# Altium schematic symbol library мс импортные.SchLib: 62 symbols
Pins are listed as number, name and electrical type; pins without a type are passive.

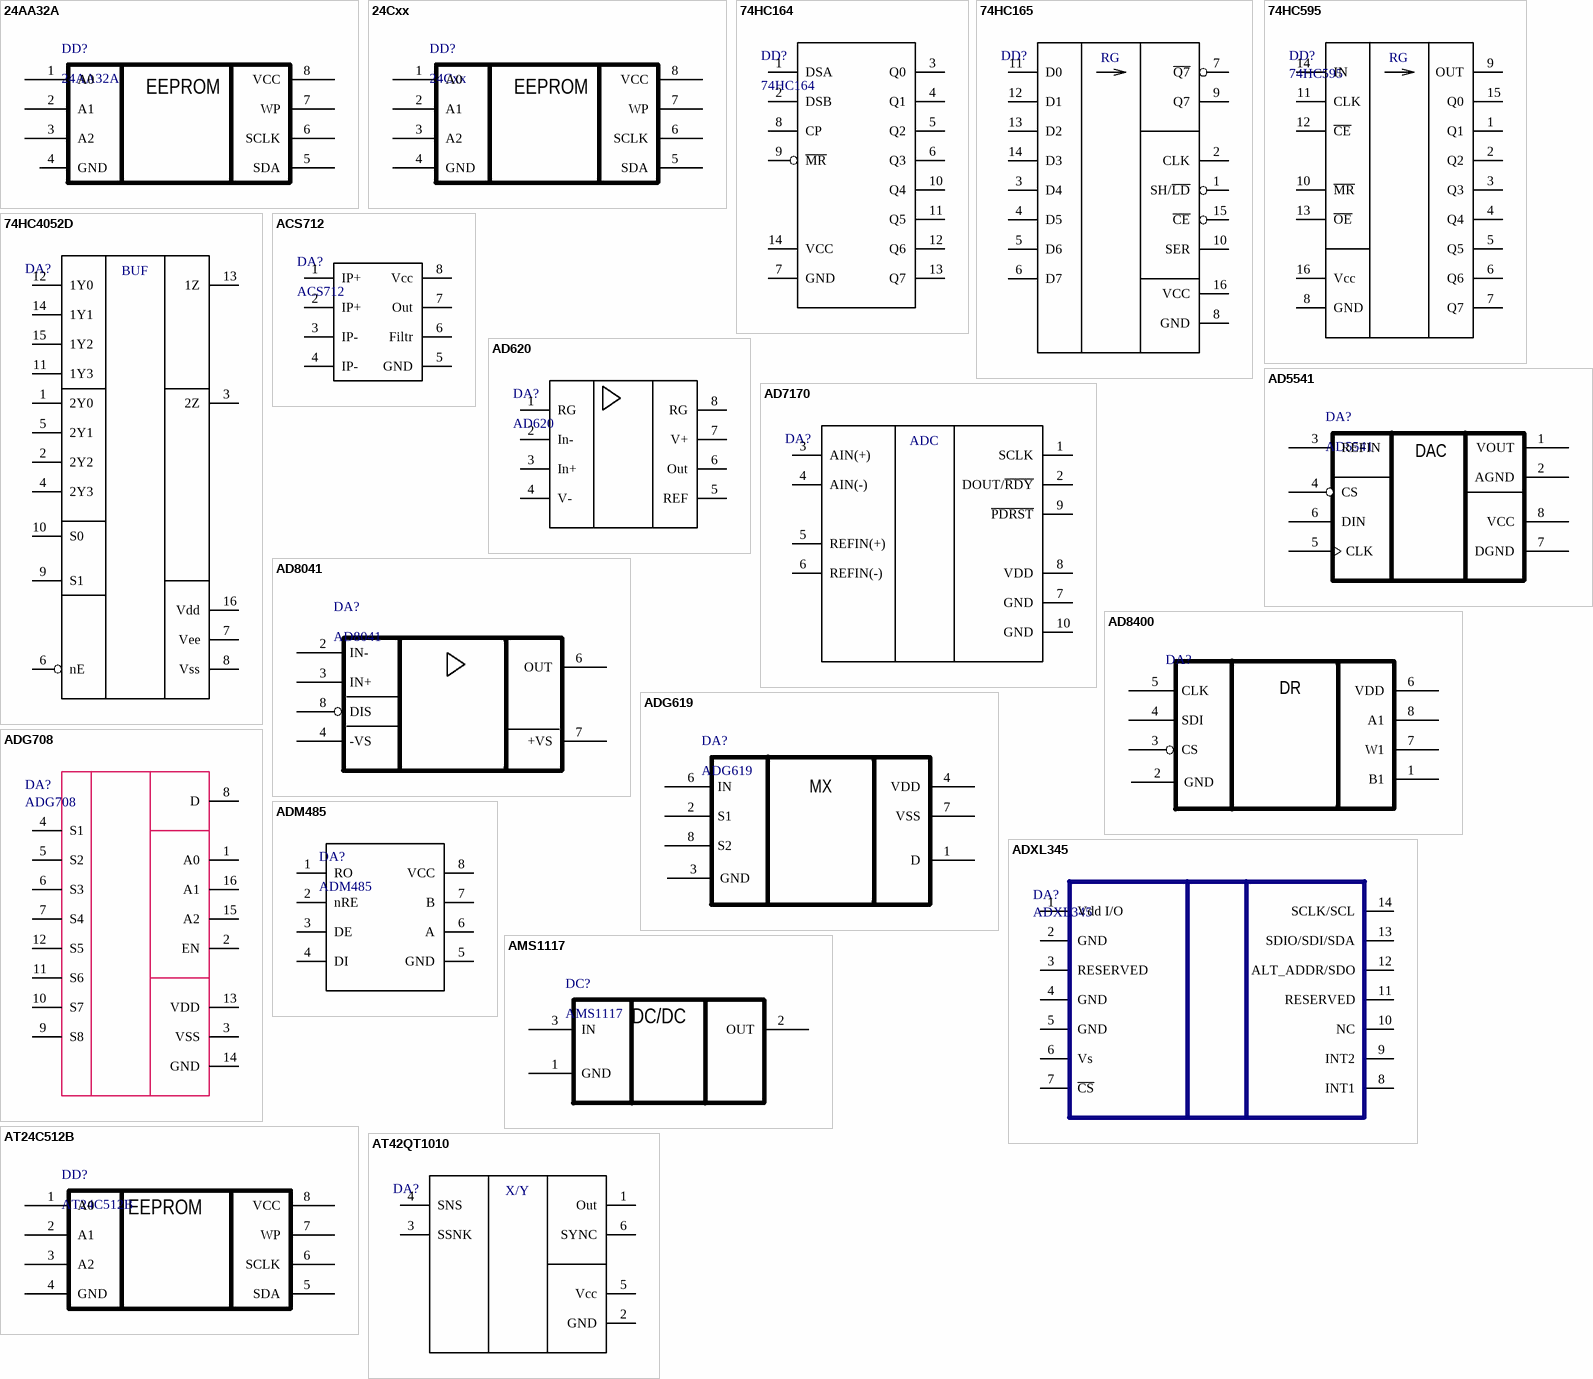
[diagram p0: symbols 24AA32A to AT42QT1010]

## 24AA32A
designator DD?
footprint TSSOP8 (TSOP, 8-Leads, Body 3,00x4,40mm, Pitch 0,65mm, IPC Medium Density)
pins: 1 A0, 2 A1, 3 A2, 4 GND, 5 SDA, 6 SCLK, 7 WP, 8 VCC
text: EEPROM

## 24Cxx
designator DD?
footprint SO-8
pins: 1 A0, 2 A1, 3 A2, 4 GND, 5 SDA, 6 SCLK, 7 WP, 8 VCC
text: EEPROM

## 74HC164
designator DD?
footprint SOP14
pins: 1 DSA, 2 DSB, 3 Q0, 4 Q1, 5 Q2, 6 Q3, 7 GND, 8 CP, 9 ~{MR}, 10 Q4, 11 Q5, 12 Q6, 13 Q7, 14 VCC

## 74HC165
designator DD?  (value not drawn)
Manufacturer: Texas Instruments; ManufacturerPartNumber: SN74HC165DR; Package: SO-16
footprint SO-16 (SOIC, 16-Leads, Body 9,90x3,90mm, Pitch 1,27mm, IPC Medium Density)
pins: 1 SH/~{LD}, 2 CLK, 3 D4, 4 D5, 5 D6, 6 D7, 7 ~{Q7}, 8 GND, 9 Q7, 10 SER, 11 D0, 12 D1, 13 D2, 14 D3, 15 ~{CE}, 16 VCC
text: RG

## 74HC595
designator DD?
Manufacturer: Texas Instruments; ManufacturerPartNumber: SN74HC595D; Package: SO-16
footprint SO-16 (SOIC, 16-Leads, Body 9,90x3,90mm, Pitch 1,27mm, IPC Medium Density)
pins: 1 Q1, 2 Q2, 3 Q3, 4 Q4, 5 Q5, 6 Q6, 7 Q7, 8 GND, 9 OUT, 10 ~{MR}, 11 CLK, 12 ~{CE}, 13 ~{OE}, 14 IN, 15 Q0, 16 Vcc
text: RG

## 74HC4052D
designator DA?, comment 74HC4052D,653NEXPERIASO-16  (value not drawn)
74HC4052D; Rem: *; Package: SO-16; Value: *; Tolerance: *; Power/Voltage: *; TKE: *; ManufacturerPartNumber: 74HC4052D,653; Manufacturer: NEXPERIA; Quantity: *; Примечание: *; Price: *
footprint SO-16 (SOIC, 16-Leads, Body 9,90x3,90mm, Pitch 1,27mm, IPC Medium Density)
pins: 1 2Y0, 2 2Y2, 3 2Z, 4 2Y3, 5 2Y1, 6 nE, 7 Vee, 8 Vss, 9 S1, 10 S0, 11 1Y3, 12 1Y0, 13 1Z, 14 1Y1, 15 1Y2, 16 Vdd
text: BUF

## ACS712
designator DA?
footprint SO-8
pins: 1 IP+, 2 IP+, 3 IP-, 4 IP-, 5 GND, 6 Filtr, 7 Out, 8 Vcc

## AD620
designator DA?
footprint DIP-8
pins: 1 RG, 2 In-, 3 In+, 4 V-, 5 REF, 6 Out, 7 V+, 8 RG

## AD5541
designator DA?
footprint SOIC-8
pins: 1 VOUT, 2 AGND, 3 REFIN, 4 CS, 5 CLK, 6 DIN, 7 DGND, 8 VCC
text: DAC

## AD7170
designator DA?, comment AD7170BCPZ-500RL7Analog DevicesLFCSP_WD  (value not drawn)
AD7170; Rem: *; Package: LFCSP_WD; Value: *; Tolerance: *; Power/Voltage: *; TKE: *; ManufacturerPartNumber: AD7170BCPZ-500RL7; Manufacturer: Analog Devices; Quantity: *; Примечание: *; Price: *
footprint LFCSP_WD_10
pins: 1 SCLK, 2 DOUT/~{RDY}, 3 AIN(+), 4 AIN(-), 5 REFIN(+), 6 REFIN(-), 7 GND, 8 VDD, 9 ~{PDRST}, 10 GND, 11 hidden to GND
text: ADC

## AD8041
designator DA?
footprint SOIC-8
pins: 2 IN-, 3 IN+, 4 -VS, 6 OUT, 7 +VS, 8 DIS

## AD8400
designator DA?  (value not drawn)
footprint SOIC-8
pins: 1 B1, 2 GND, 3 CS, 4 SDI, 5 CLK, 6 VDD, 7 W1, 8 A1
text: DR

## ADG619
designator DA?
footprint SOT23-8
pins: 1 D, 2 S1, 3 GND, 4 VDD, 6 IN, 7 VSS, 8 S2
text: MX

## ADG708
designator DA?
footprint TSSOP16 (SOP, 16-Leads, Body 5,00x4,40mm, Pitch 0,65mm, IPC Medium Density)
pins: 1 A0, 2 EN, 3 VSS, 4 S1, 5 S2, 6 S3, 7 S4, 8 D, 9 S8, 10 S7, 11 S6, 12 S5, 13 VDD, 14 GND, 15 A2, 16 A1

## ADM485
designator DA?
footprint SO-8
pins: 1 RO, 2 nRE, 3 DE, 4 DI, 5 GND, 6 A, 7 B, 8 VCC

## ADXL345
designator DA?
footprint ADXL345
pins: 1 Vdd I/O, 2 GND, 3 RESERVED, 4 GND, 5 GND, 6 Vs, 7 ~{CS}, 8 INT1, 9 INT2, 10 NC, 11 RESERVED, 12 ALT_ADDR/SDO, 13 SDIO/SDI/SDA, 14 SCLK/SCL

## AMS1117
designator DC?
footprint TO252
pins: 1 GND, 2 OUT, 3 IN
text: DC/DC

## AT24C512B
designator DD?
footprint SOIC-8
pins: 1 A0, 2 A1, 3 A2, 4 GND, 5 SDA, 6 SCLK, 7 WP, 8 VCC
text: EEPROM

## AT42QT1010
designator DA?, comment ***  (value not drawn)
Rem: *; Package: *; Value: *; Tolerance: *; Power/Voltage: *; TKE: *; ManufacturerPartNumber: *; Manufacturer: *; Quantity: *; Примечание: *
footprint SOT23-6 (SOT23, 6-Leads, Body 2,90x2,45mm, Pitch 0,95mm, IPC Medium Density)
pins: 1 Out, 2 GND, 3 SSNK, 4 SNS, 5 Vcc, 6 SYNC
text: X/Y

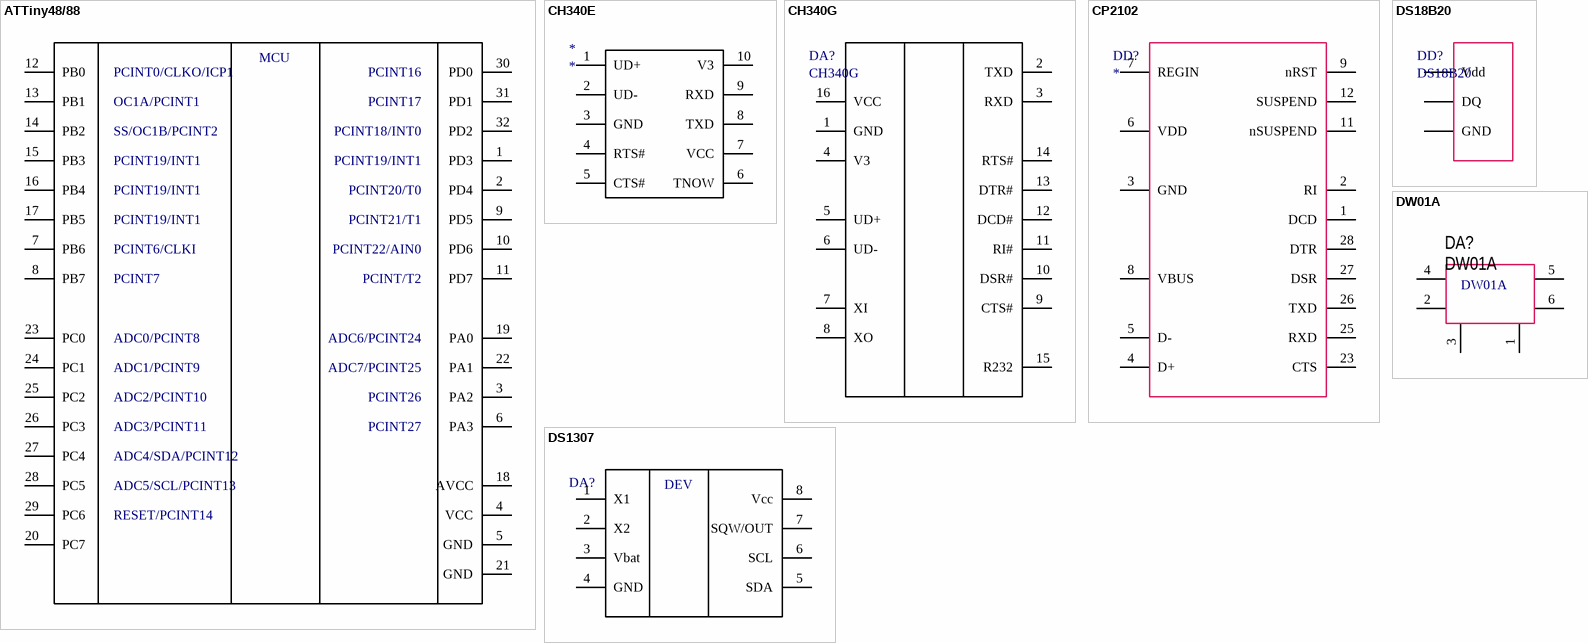
[diagram p1: symbols ATTiny48/88 to DW01A]

## ATTiny48/88
designator DA?, comment ***  (value not drawn)
Rem: *; Package: *; Value: *; Tolerance: *; Power/Voltage: *; TKE: *; ManufacturerPartNumber: *; Manufacturer: *; Quantity: *; Примечание: *
footprint 32A_L (Thin QFP, 32-Leads, Body 7x7mm, Pitch 0.8mm, IPC High Density)
pins: 1 PD3, 2 PD4, 3 PA2, 4 VCC, 5 GND, 6 PA3, 7 PB6, 8 PB7, 9 PD5, 10 PD6, 11 PD7, 12 PB0, 13 PB1, 14 PB2, 15 PB3, 16 PB4, 17 PB5, 18 AVCC, 19 PA0, 20 PC7, 21 GND, 22 PA1, 23 PC0, 24 PC1, 25 PC2, 26 PC3, 27 PC4, 28 PC5, 29 PC6, 30 PD0, 31 PD1, 32 PD2
text: MCU; PCINT0/CLKO/ICP1; PCINT16; OC1A/PCINT1; PCINT17; SS/OC1B/PCINT2; PCINT18/INT0; PCINT19/INT1; PCINT20/T0; PCINT21/T1; PCINT6/CLKI; PCINT22/AIN0; PCINT7; PCINT/T2; ADC0/PCINT8; ADC6/PCINT24; ADC1/PCINT9; ADC7/PCINT25; ADC2/PCINT10; PCINT26; ADC3/PCINT11; PCINT27; ADC4/SDA/PCINT12; ADC5/SCL/PCINT13; RESET/PCINT14

## CH340E
designator *
footprint MSOIC-10
pins: 1 UD+, 2 UD-, 3 GND, 4 RTS#, 5 CTS#, 6 TNOW, 7 VCC, 8 TXD, 9 RXD, 10 V3

## CH340G
designator DA?
footprint SO16 (SOIC, 16-Leads, Body 9,90x0,18mm, Pitch 1,27mm, IPC Medium Density)
pins: 1 GND, 2 TXD, 3 RXD, 4 V3, 5 UD+, 6 UD-, 7 XI, 8 XO, 9 CTS#, 10 DSR#, 11 RI#, 12 DCD#, 13 DTR#, 14 RTS#, 15 R232, 16 VCC

## CP2102
designator DD?
footprint QFN_28 (QFN, 28-Leads, Body 5,00x5,00mm, Pitch 0,50mm, Thermal Pad 3,13x3,13mm, IPC Medium Density)
footprint QFN_28_1 (QFN, 28-Leads, Body 5,00x5,00mm, Pitch 0,50mm, Thermal Pad 3,13x3,13mm, IPC Medium Density)
footprint QFN_28_2 (QFN, 28-Leads, Body 5,00x5,00mm, Pitch 0,50mm, Thermal Pad 3,13x3,13mm, IPC Medium Density)
pins: 1 DCD, 2 RI, 3 GND, 4 D+, 5 D-, 6 VDD, 7 REGIN, 8 VBUS, 9 nRST, 11 nSUSPEND, 12   SUSPEND, 23 CTS, 25 RXD, 26 TXD, 27 DSR, 28 DTR

## DS18B20
designator DD?
footprint DS18b20_Combo
footprint SO-8
footprint TO-92 - DS18B20 PIN_3_4_5
pins: 3 Vdd, 4 DQ, 5 GND

## DS1307
designator DA?, comment ***  (value not drawn)
Rem: *; Package: *; Value: *; Tolerance: *; Power/Voltage: *; TKE: *; ManufacturerPartNumber: *; Manufacturer: *; Quantity: *; Примечание: *
footprint SO-8
pins: 1 X1, 2 X2, 3 Vbat, 4 GND, 5 SDA, 6 SCL, 7 SQW/OUT, 8 Vcc
text: DEV

## DW01A
designator DA?
footprint SOT23-6 (SOT23, 6-Leads, Body 2,90x2,45mm, Pitch 0,95mm, IPC Medium Density)
pins: 1, 2, 3, 4, 5, 6

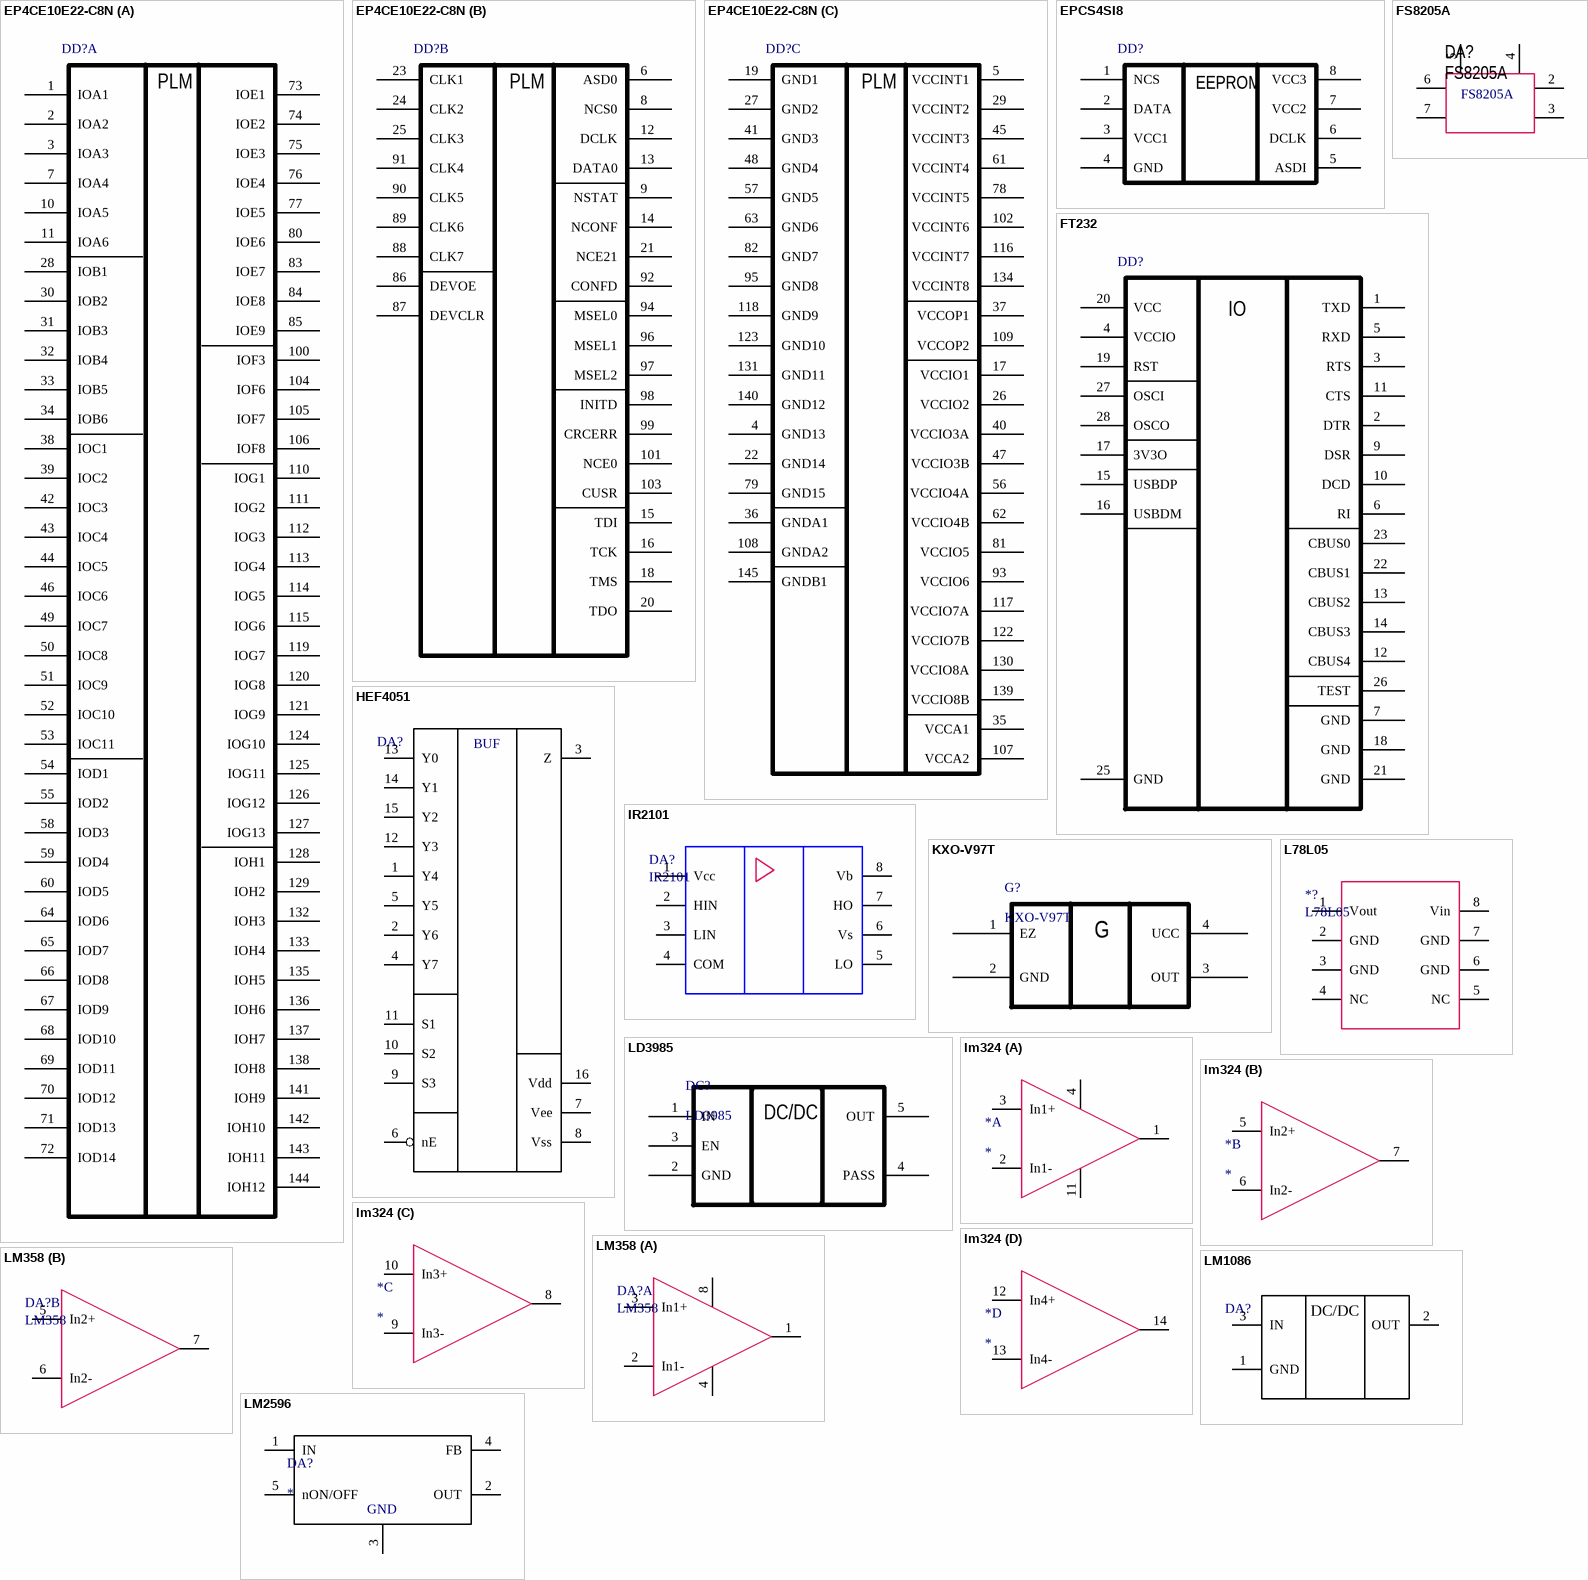
[diagram p2: symbols EP4CE10E22-C8N to LM2596]

## EP4CE10E22-C8N
designator DD?  (value not drawn)
footprint EQFP144
part A pins: 1 IOA1, 2 IOA2, 3 IOA3, 7 IOA4, 10 IOA5, 11 IOA6, 28 IOB1, 30 IOB2, 31 IOB3, 32 IOB4, 33 IOB5, 34 IOB6, 38 IOC1, 39 IOC2, 42 IOC3, 43 IOC4, 44 IOC5, 46 IOC6, 49 IOC7, 50 IOC8, 51 IOC9, 52 IOC10, 53 IOC11, 54 IOD1, 55 IOD2, 58 IOD3, 59 IOD4, 60 IOD5, 64 IOD6, 65 IOD7, 66 IOD8, 67 IOD9, 68 IOD10, 69 IOD11, 70 IOD12, 71 IOD13, 72 IOD14, 73 IOE1, 74 IOE2, 75 IOE3, 76 IOE4, 77 IOE5, 80 IOE6, 83 IOE7, 84 IOE8, 85 IOE9, 100 IOF3, 104 IOF6, 105 IOF7, 106 IOF8, 110 IOG1, 111 IOG2, 112 IOG3, 113 IOG4, 114 IOG5, 115 IOG6, 119 IOG7, 120 IOG8, 121 IOG9, 124 IOG10, 125 IOG11, 126 IOG12, 127 IOG13, 128 IOH1, 129 IOH2, 132 IOH3, 133 IOH4, 135 IOH5, 136 IOH6, 137 IOH7, 138 IOH8, 141 IOH9, 142 IOH10, 143 IOH11, 144 IOH12
part B pins: 6 ASD0, 8 NCS0, 9 NSTAT, 12 DCLK, 13 DATA0, 14 NCONF, 15 TDI, 16 TCK, 18 TMS, 20 TDO, 21 NCE21, 23 CLK1, 24 CLK2, 25 CLK3, 86 DEVOE, 87 DEVCLR, 88 CLK7, 89 CLK6, 90 CLK5, 91 CLK4, 92 CONFD, 94 MSEL0, 96 MSEL1, 97 MSEL2, 98 INITD, 99 CRCERR, 101 NCE0, 103 CUSR
part C pins: 4 GND13, 5 VCCINT1, 17 VCCIO1, 19 GND1, 22 GND14, 26 VCCIO2, 27 GND2, 29 VCCINT2, 35 VCCA1, 36 GNDA1, 37 VCCOP1, 40 VCCIO3A, 41 GND3, 45 VCCINT3, 47 VCCIO3B, 48 GND4, 56 VCCIO4A, 57 GND5, 61 VCCINT4, 62 VCCIO4B, 63 GND6, 78 VCCINT5, 79 GND15, 81 VCCIO5, 82 GND7, 93 VCCIO6, 95 GND8, 102 VCCINT6, 107 VCCA2, 108 GNDA2, 109 VCCOP2, 116 VCCINT7, 117 VCCIO7A, 118 GND9, 122 VCCIO7B, 123 GND10, 130 VCCIO8A, 131 GND11, 134 VCCINT8, 139 VCCIO8B, 140 GND12, 145 GNDB1
part A text: PLM
part B text: PLM
part C text: PLM

## EPCS4SI8
designator DD?  (value not drawn)
footprint SOIC-8
pins: 1 NCS, 2 DATA, 3 VCC1, 4 GND, 5 ASDI, 6 DCLK, 7 VCC2, 8 VCC3
text: EEPROM

## FS8205A
designator DA?
footprint TSSOP8 (TSOP, 8-Leads, Body 3,00x4,40mm, Pitch 0,65mm, IPC Medium Density)
pins: 2, 3, 4, 5, 6, 7

## FT232
designator DD?  (value not drawn)
footprint SSOP-28
pins: 1 TXD, 2 DTR, 3 RTS, 4 VCCIO, 5 RXD, 6 RI, 7 GND, 9 DSR, 10 DCD, 11 CTS, 12 CBUS4, 13 CBUS2, 14 CBUS3, 15 USBDP, 16 USBDM, 17 3V3O, 18 GND, 19 RST, 20 VCC, 21 GND, 22 CBUS1, 23 CBUS0, 25 GND, 26 TEST, 27 OSCI, 28 OSCO
text: IO

## HEF4051
designator DA?, comment HEF4051BT,653NexperiaSO-16  (value not drawn)
Rem: *; Package: SO-16; Value: *; Tolerance: *; Power/Voltage: *; TKE: *; ManufacturerPartNumber: HEF4051BT,653; Manufacturer: Nexperia; Quantity: *; Примечание: *
footprint SO-16 (SOIC, 16-Leads, Body 9,90x3,90mm, Pitch 1,27mm, IPC Medium Density)
pins: 1 Y4, 2 Y6, 3 Z, 4 Y7, 5 Y5, 6 nE, 7 Vee, 8 Vss, 9 S3, 10 S2, 11 S1, 12 Y3, 13 Y0, 14 Y1, 15 Y2, 16 Vdd
text: BUF

## IR2101
designator DA?
footprint SOIC-8
pins: 1 Vcc, 2 HIN, 3 LIN, 4 COM, 5 LO, 6 Vs, 7 HO, 8 Vb

## KXO-V97T
designator G?
footprint KXO-V97T
pins: 1 EZ, 2 GND, 3 OUT, 4 UCC
text: G

## L78L05
designator *?
footprint SO-8
pins: 1 Vout, 2 GND, 3 GND, 4 NC, 5 NC, 6 GND, 7 GND, 8 Vin

## LD3985
designator DC?
footprint SOT23-5 (SOT23, 5-Leads, Body 3,0x2,6mm (max), Pitch 0,95mm, IPC Medium Density)
pins: 1 IN, 2 GND, 3 EN, 4 PASS, 5 OUT
text: DC/DC

## lm324
designator *
footprint SOP14
part A pins: 1 Out1, 2 In1-, 3 In1+, 4 VCC, 11 GND
part B pins: 5 In2+, 6 In2-, 7 Out2
part C pins: 8 Out3, 9 In3-, 10 In3+
part D pins: 12 In4+, 13 In4-, 14 Out4

## LM358
designator DA?
footprint SO-8
part A pins: 1 Out1, 2 In1-, 3 In1+, 4 GND, 8 VCC
part B pins: 5 In2+, 6 In2-, 7 Out2

## LM1086
designator DA?
Manufacturer: Texas Instruments
footprint TO-263-3
pins: 1 GND, 2 OUT, 3 IN
text: DC/DC

## LM2596
designator DA?
footprint DPAK228P1455X238-6N (D2-PAK, 6-Pads, Body 7,80x8,63mm (max), IPC Medium Density)
pins: 1 IN, 2 OUT, 3 GND, 4 FB, 5 nON/OFF

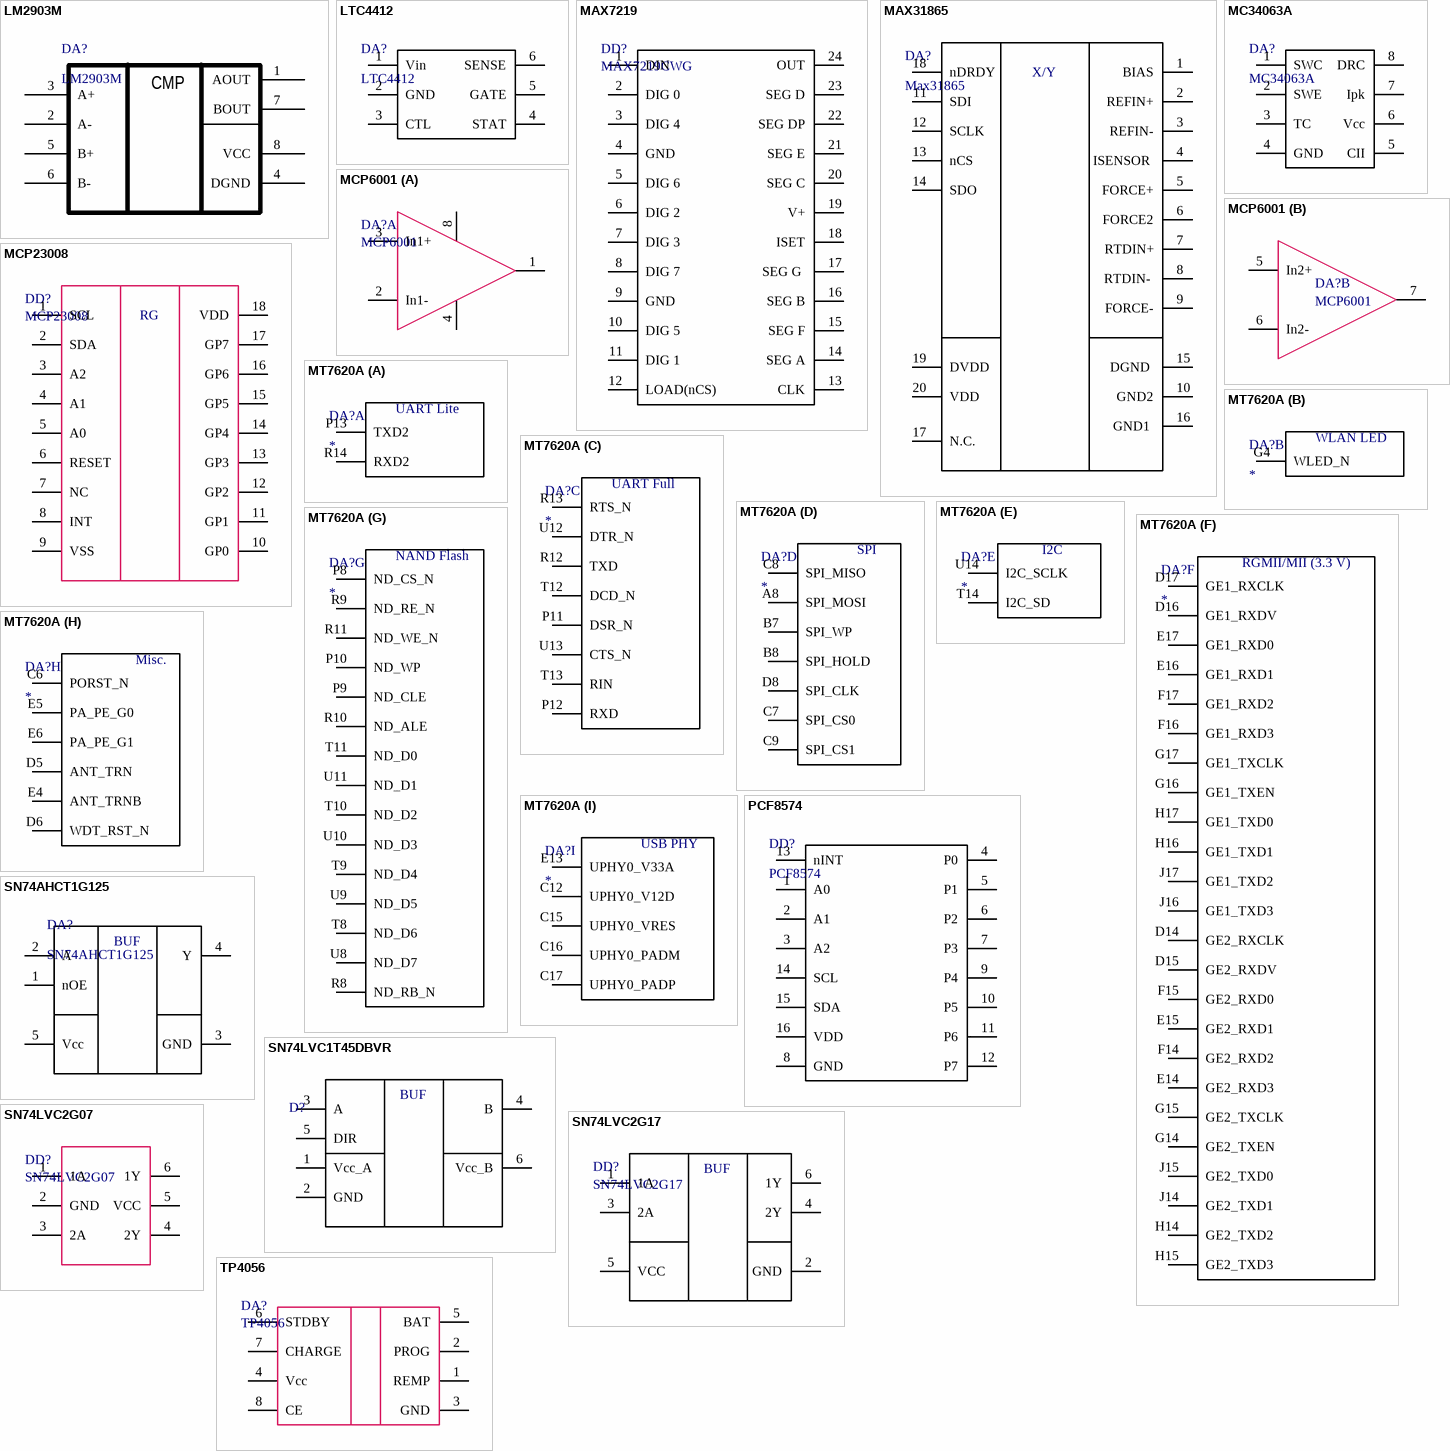
[diagram p3: symbols LM2903M to TP4056]

## LM2903M
designator DA?
footprint SOIC-8
pins: 1 AOUT, 2 A-, 3 A+, 4 DGND, 5 B+, 6 B-, 7 BOUT, 8 VCC
text: CMP

## LTC4412
designator DA?
footprint SOT23-6 (SOT23, 6-Leads, Body 2,90x2,45mm, Pitch 0,95mm, IPC Medium Density)
pins: 1 Vin, 2 GND, 3 CTL, 4 STAT, 5 GATE, 6 SENSE

## MAX7219
designator DD?, comment MAX7219CWG
MAX7219; PART: MAX7219CWG
footprint Model Name (Footprint not found)
footprint SOIC-24W
pins: 1 DIN, 2 DIG 0, 3 DIG 4, 4 GND, 5 DIG 6, 6 DIG 2, 7 DIG 3, 8 DIG 7, 9 GND, 10 DIG 5, 11 DIG 1, 12 LOAD(nCS), 13 CLK, 14 SEG A, 15 SEG F, 16 SEG B, 17 SEG G , 18 ISET, 19 V+, 20 SEG C, 21 SEG E, 22 SEG DP, 23 SEG D, 24 OUT

## MAX31865
designator DA?, comment Max31865
Value: Max31865
footprint TQFN_5x5_20pin (QFN, 20-Leads, Body 5,00x5,00mm, Pitch 0,50mm, Thermal Pad 4,00x2,20mm, IPC Medium Density)
footprint TQFN_5x5_20pin_ver2 (QFN, 20-Leads, Body 5,00x5,00mm, Pitch 0,50mm, Thermal Pad 4,00x2,20mm, IPC Medium Density)
pins: 1 BIAS, 2 REFIN+, 3 REFIN-, 4 ISENSOR , 5 FORCE+, 6 FORCE2, 7 RTDIN+, 8 RTDIN- , 9 FORCE-, 10 GND2, 11 SDI , 12 SCLK , 13 nCS , 14 SDO , 15 DGND , 16 GND1 , 17 N.C. , 18 nDRDY, 19 DVDD , 20 VDD , 21 EP hidden to GND
text: X/Y

## MC34063A
designator DA?
footprint SO-8
pins: 1 SWC, 2 SWE, 3 TC, 4 GND, 5 CII, 6 Vcc, 7 Ipk, 8 DRC

## MCP6001
designator DA?
footprint SO-8
part A pins: 1 Out1, 2 In1-, 3 In1+, 4 GND, 8 VCC
part B pins: 5 In2+, 6 In2-, 7 Out2

## MCP23008
designator DD?
footprint SOIC18
pins: 1 SCL, 2 SDA, 3 A2, 4 A1, 5 A0, 6 RESET, 7 NC, 8 INT, 9 VSS, 10 GP0, 11 GP1, 12 GP2, 13 GP3, 14 GP4, 15 GP5, 16 GP6, 17 GP7, 18 VDD
text: RG

## MT7620A
designator DA?
MT7620A
part A pins: P13  TXD2 , R14  RXD2 
part B pins: G4 WLED_N  
part C pins: P11  DSR_N , P12  RXD , R12  TXD , R13  RTS_N, T12  DCD_N , T13  RIN , U12  DTR_N , U13  CTS_N 
part D pins: A8  SPI_MOSI , B7  SPI_WP , B8  SPI_HOLD , C7  SPI_CS0 , C8  SPI_MISO , C9  SPI_CS1, D8  SPI_CLK 
part E pins: T14  I2C_SD , U14  I2C_SCLK 
part F pins: D14  GE2_RXCLK , D15  GE2_RXDV, D16  GE1_RXDV , D17  GE1_RXCLK , E14  GE2_RXD3 , E15  GE2_RXD1 , E16  GE1_RXD1 , E17  GE1_RXD0 , F14  GE2_RXD2 , F15  GE2_RXD0 , F16  GE1_RXD3 , F17  GE1_RXD2 , G14  GE2_TXEN , G15  GE2_TXCLK , G16  GE1_TXEN , G17  GE1_TXCLK , H14  GE2_TXD2 , H15  GE2_TXD3 , H16  GE1_TXD1 , H17  GE1_TXD0 , J14  GE2_TXD1 , J15  GE2_TXD0 , J16  GE1_TXD3 , J17  GE1_TXD2 
part G pins: P8  ND_CS_N , P9  ND_CLE , P10  ND_WP , R8  ND_RB_N , R9  ND_RE_N , R10  ND_ALE , R11  ND_WE_N , T8  ND_D6 , T9  ND_D4 , T10  ND_D2 , T11  ND_D0 , U8  ND_D7 , U9  ND_D5 , U10  ND_D3 , U11  ND_D1 
part H pins: C6  PORST_N , D5  ANT_TRN , D6  WDT_RST_N , E4  ANT_TRNB , E5  PA_PE_G0 , E6  PA_PE_G1 
part I pins: C12  UPHY0_V12D , C15  UPHY0_VRES , C16  UPHY0_PADM , C17  UPHY0_PADP , E13  UPHY0_V33A 
part A text: UART Lite
part B text: WLAN LED
part C text: UART Full
part D text: SPI
part E text: I2C
part F text: RGMII/MII (3.3 V)
part G text: NAND Flash
part H text: Misc.
part I text: USB PHY

## PCF8574
designator DD?
footprint SO-16W (SOP, 16-Leads, Body 10,30x7,50mm, Pitch 1,27mm, IPC Medium Density)
pins: 1 A0, 2 A1, 3 A2, 4 P0, 5 P1, 6 P2, 7 P3, 8 GND, 9 P4, 10 P5, 11 P6, 12 P7, 13 nINT, 14 SCL, 15 SDA, 16 VDD

## SN74AHCT1G125
designator DA?
ChipDip: 870082705
footprint SOT23-5 (SOT23, 5-Leads, Body 3,0x2,6mm (max), Pitch 0,95mm, IPC Medium Density)
footprint SOT23-5_vaer_1 (SOT23, 6-Leads, Body 2,90x2,45mm, Pitch 0,95mm, IPC Medium Density)
pins: 1 nOE, 2 A, 3 GND, 4 Y, 5 Vcc
text: BUF

## SN74LVC1T45DBVR
designator D?, comment SN74LVC1T45DBVRTexas InstrumentsSOT-23-6  (value not drawn)
Rem: *; Package: SOT-23-6; Value: *; Tolerance: *; Power/Voltage: *; TKE: *; ManufacturerPartNumber: SN74LVC1T45DBVR; Manufacturer: Texas Instruments; Quantity: *; Примечание: *
footprint SOT23-6 (SOT23, 6-Leads, Body 2,90x2,45mm, Pitch 0,95mm, IPC Medium Density)
pins: 1 Vcc_A, 2 GND, 3 A, 4 B, 5 DIR, 6 Vcc_B
text: BUF

## SN74LVC2G07
designator DD?
footprint SOT23-6 (SOT23, 6-Leads, Body 2,90x2,45mm, Pitch 0,95mm, IPC Medium Density)
pins: 1 1A, 2 GND, 3 2A, 4 2Y, 5 VCC, 6 1Y

## SN74LVC2G17
designator DD?
footprint SOT23-6 (SOT23, 6-Leads, Body 2,90x2,45mm, Pitch 0,95mm, IPC Medium Density)
pins: 1 1A, 2 GND, 3 2A, 4 2Y, 5 VCC, 6 1Y
text: BUF

## TP4056
designator DA?
footprint SO-8
pins: 1 REMP, 2 PROG, 3 GND, 4 Vcc, 5 BAT, 6 STDBY, 7 CHARGE, 8 CE

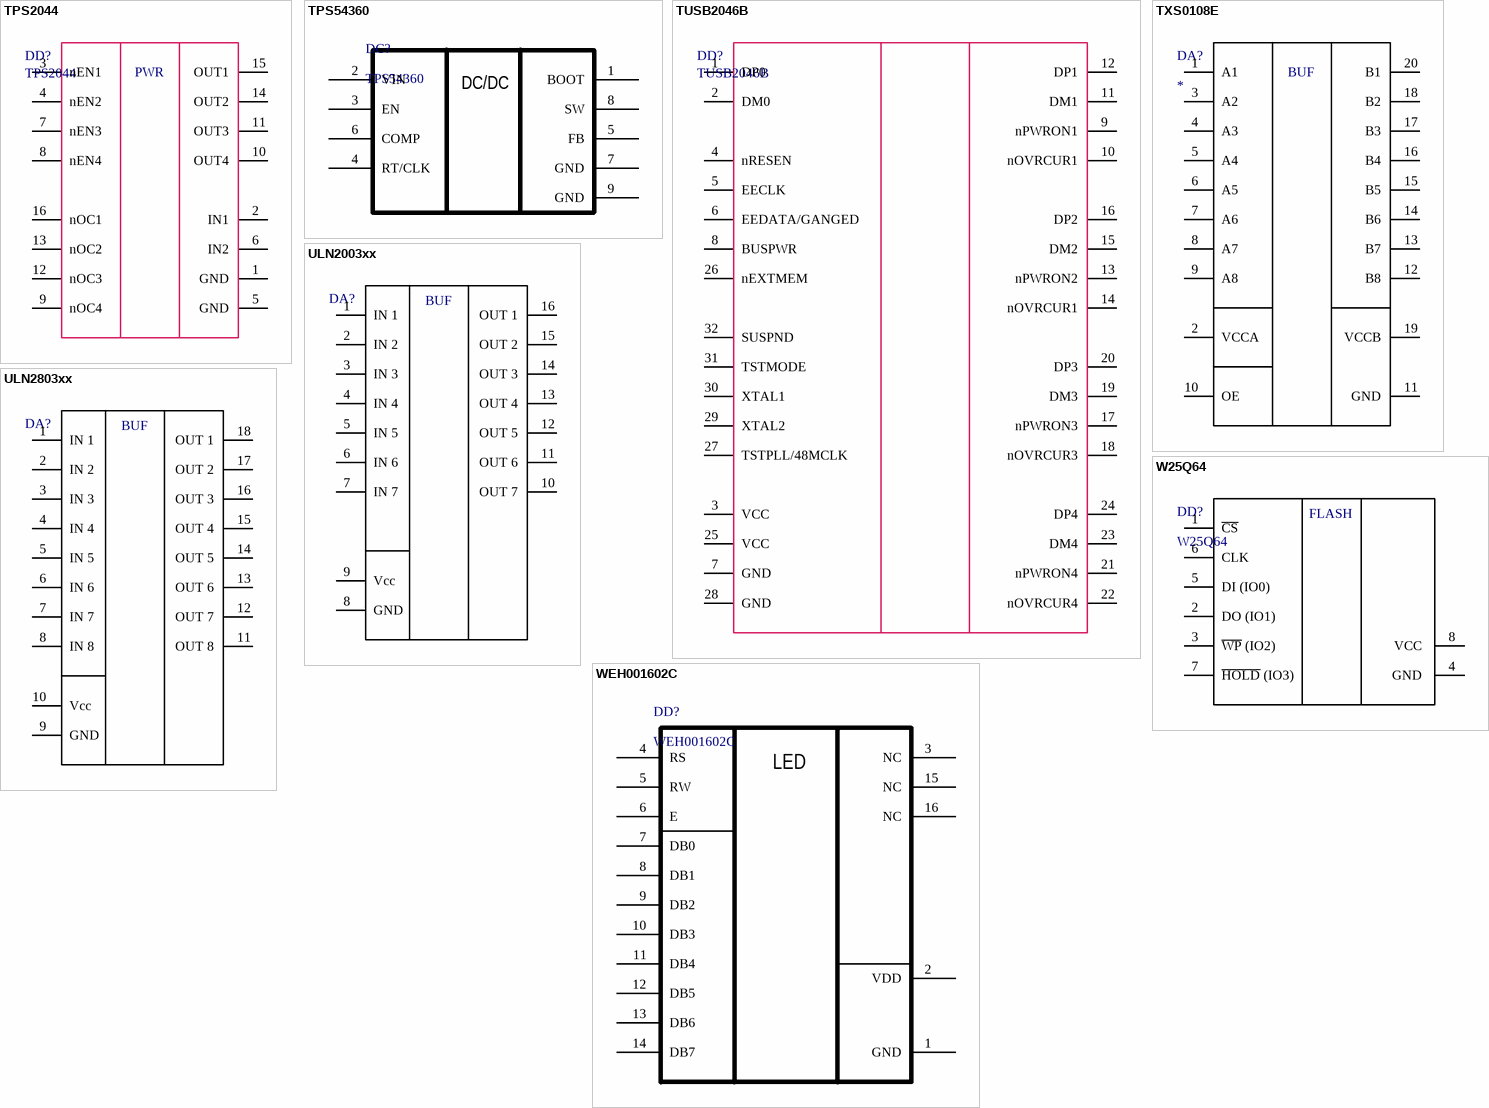
[diagram p4: symbols TPS2044 to WEH001602C]

## TPS2044
designator DD?
footprint SOIC16-8N
pins: 1 GND, 2 IN1, 3 nEN1, 4 nEN2, 5 GND, 6 IN2, 7 nEN3, 8 nEN4, 9 nOC4, 10 OUT4, 11 OUT3, 12 nOC3, 13 nOC2, 14 OUT2, 15 OUT1, 16 nOC1
text: PWR

## TPS54360
designator DC?
footprint HSOP-8
pins: 1 BOOT, 2 VIN, 3 EN, 4 RT/CLK, 5 FB, 6 COMP, 7 GND, 8 SW, 9 GND
text: DC/DC

## TUSB2046B
designator DD?
footprint TQFP-32N (TQFP, 32-Leads, Body 7,00x7,00mm, Pitch 0,80mm, IPC Medium Density)
pins: 1 DP0, 2 DM0, 3 VCC, 4 nRESEN, 5 EECLK, 6 EEDATA/GANGED, 7 GND, 8 BUSPWR, 9 nPWRON1, 10 nOVRCUR1, 11 DM1, 12 DP1, 13 nPWRON2, 14 nOVRCUR1, 15 DM2, 16 DP2, 17 nPWRON3, 18 nOVRCUR3, 19 DM3, 20 DP3, 21 nPWRON4, 22 nOVRCUR4, 23 DM4, 24 DP4, 25 VCC, 26 nEXTMEM, 27 TSTPLL/48MCLK, 28 GND, 29 XTAL2, 30 XTAL1, 31 TSTMODE, 32 SUSPND

## TXS0108E
designator DA?
footprint TSSOP_20
pins: 1 A1, 2 VCCA, 3 A2, 4 A3, 5 A4, 6 A5, 7 A6, 8 A7, 9 A8, 10 OE, 11 GND, 12 B8, 13 B7, 14 B6, 15 B5, 16 B4, 17 B3, 18 B2, 19 VCCB, 20 B1
text: BUF

## ULN2003xx
designator DA?, comment ULN2803AFWGToshibaSOIC-18W  (value not drawn)
Rem: *; Package: SOIC-18W; Value: ULN2803AFWG; Tolerance: *; Power/Voltage: *; TKE: *; ManufacturerPartNumber: ULN2803AFWG; Manufacturer: Toshiba; Quantity: *; Примечание: *
footprint SO-16 (SOIC, 16-Leads, Body 9,90x3,90mm, Pitch 1,27mm, IPC Medium Density)
pins: 1 IN 1, 2 IN 2, 3 IN 3, 4 IN 4, 5 IN 5, 6 IN 6, 7 IN 7, 8 GND, 9 Vcc, 10 OUT 7, 11 OUT 6, 12 OUT 5, 13 OUT 4, 14 OUT 3, 15 OUT 2, 16 OUT 1
text: BUF

## ULN2803xx
designator DA?, comment ULN2803AFWGToshibaSOIC-18W  (value not drawn)
Rem: *; Package: SOIC-18W; Value: ULN2803AFWG; Tolerance: *; Power/Voltage: *; TKE: *; ManufacturerPartNumber: ULN2803AFWG; Manufacturer: Toshiba; Quantity: *; Примечание: *
footprint SOIC-18W (SOIC, 18-Leads, Body 11,55x7,50mm, Pitch 1,27mm, IPC Medium Density)
pins: 1 IN 1, 2 IN 2, 3 IN 3, 4 IN 4, 5 IN 5, 6 IN 6, 7 IN 7, 8 IN 8, 9 GND, 10 Vcc, 11 OUT 8, 12 OUT 7, 13 OUT 6, 14 OUT 5, 15 OUT 4, 16 OUT 3, 17 OUT 2, 18 OUT 1
text: BUF

## W25Q64
designator DD?
footprint SO-8
footprint SOIC-8
pins: 1 ~{CS}, 2 DO (IO1) , 3 ~{WP} (IO2) , 4 GND , 5 DI (IO0) , 6 CLK , 7 ~{HOLD} (IO3) , 8 VCC 
text: FLASH

## WEH001602C
designator DD?
footprint WEH001602C
pins: 1 GND, 2 VDD, 3 NC, 4 RS, 5 RW, 6 E, 7 DB0, 8 DB1, 9 DB2, 10 DB3, 11 DB4, 12 DB5, 13 DB6, 14 DB7, 15 NC, 16 NC
text: LED

## РЫБА_1
designator D?, comment ***  (value not drawn)
Rem: *; Package: *; Value: *; Tolerance: *; Power/Voltage: *; TKE: *; ManufacturerPartNumber: *; Manufacturer: *; Quantity: *; Примечание: *